# EAGLE library part MSP430PUPPY (library CEDT_JANUARY_2015_v6)
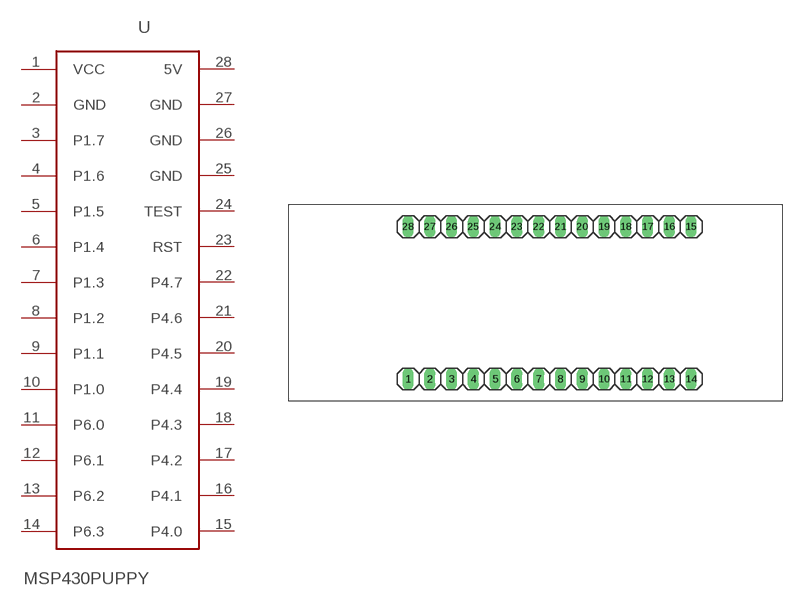
[diagram p83: symbol with the pads of MSP430PUPPY; footprint MSP430PUPPY]

Designator prefix -

## MSP430PUPPY  [MSP430PUPPY]
1  VCC  pwr
2  GND  pwr
3  P1.7
4  P1.6
5  P1.5
6  P1.4
7  P1.3
8  P1.2
9  P1.1
10  P1.0
11  P6.0
12  P6.1
13  P6.2
14  P6.3
15  P4.0
16  P4.1
17  P4.2
18  P4.3
19  P4.4
20  P4.5
21  P4.6
22  P4.7
23  RST
24  TEST
25  GND  pwr
26  GND  pwr
27  GND  pwr
28  5V  pwr

## Footprint MSP430PUPPY (pad centres in mm)
drill 0.8 long: 1 -13.97,-8.89; 2 -11.43,-8.89; 3 -8.89,-8.89; 4 -6.35,-8.89; 5 -3.81,-8.89; 6 -1.27,-8.89; 7 1.27,-8.89; 8 3.81,-8.89; 9 6.35,-8.89; 10 8.89,-8.89; 11 11.43,-8.89; 12 13.97,-8.89; 13 16.51,-8.89; 14 19.05,-8.89; 15 19.05,8.89; 16 16.51,8.89; 17 13.97,8.89; 18 11.43,8.89; 19 8.89,8.89; 20 6.35,8.89; 21 3.81,8.89; 22 1.27,8.89; 23 -1.27,8.89; 24 -3.81,8.89; 25 -6.35,8.89; 26 -8.89,8.89; 27 -11.43,8.89; 28 -13.97,8.89